# Altium footprint library LibTim_Connectors.PcbLib: 15 footprints
Each footprint in its own frame and in the unit in brackets; x right, y up, seen from the top. Pads: shape width x height; smd on the part's side, far side on the other; paste and mask are expansions set on the pad; w line width, h text height; cw(c..) or ccw(c..) is an arc to the next point about the centre after c.
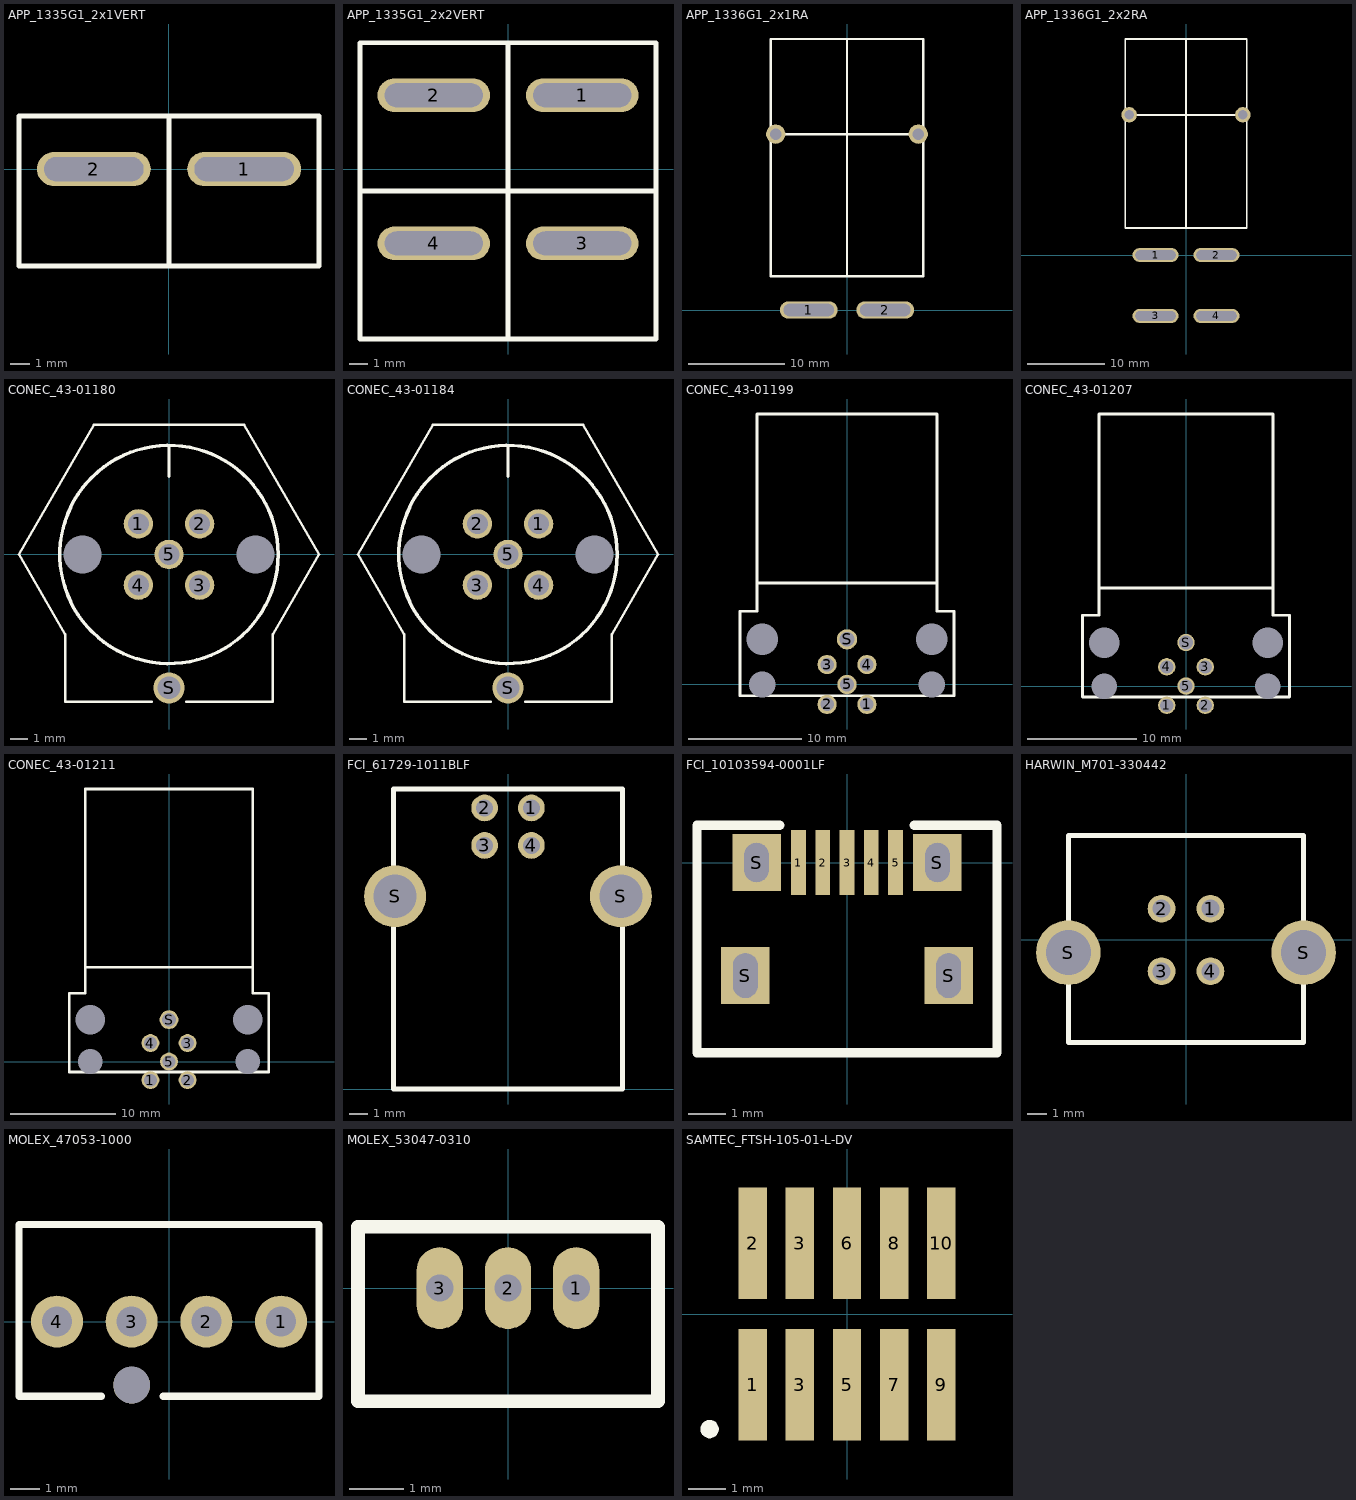
[diagram p0: the footprints below, top view; thin cyan lines are the x and y axes]

## APP_1335G1_2x1VERT [mm]
pads (2):
  oval 6x1.8 hole 1.27 slot 5.23 at 0 deg: 1(3.96,0) 2(-3.96,0)
Top Overlay:
  lines w0.254: 0,-5.1 0,2.8 ; -7.9,-5.1 7.9,-5.1 7.9,2.8 -7.9,2.8 -7.9,-5.1
3D body "PP 15-45 (Std)-02-08-STEP.stp": height 24.6, standoff -0.11, extent -8.204,-5.4 0.204,3.007
3D body "PP 15-45 (Std)-02-08-STEP.stp": height 24.6, standoff -0.11, extent -0.104,-5.4 8.304,3.007

## APP_1335G1_2x2VERT [mm]
pads (4):
  oval 6x1.8 hole 1.27 slot 5.23 at 0 deg: 1(3.96,3.95) 2(-3.96,3.95) 3(3.96,-3.95) 4(-3.96,-3.95)
Top Overlay:
  lines w0.254: 0,-9.05 0,-1.15 0,6.75 ; -7.9,-1.15 7.9,-1.15 ; -7.9,-1.15 -7.9,-9.05 7.9,-9.05 7.9,-1.15 ; -7.9,-1.15 -7.9,6.75 7.9,6.75 7.9,-1.15 ; -7.9,-1.15 7.9,-1.15
3D body "PP 15-45 (Std)-02-08-STEP.stp": height 24.6, standoff -0.11, extent -8.204,-9.35 0.204,-0.943
3D body "PP 15-45 (Std)-02-08-STEP.stp": height 24.6, standoff -0.11, extent -0.104,-9.35 8.304,-0.943
3D body "PP 15-45 (Std)-02-08-STEP.stp": height 24.6, standoff -0.11, extent -0.104,-1.45 8.304,6.957
3D body "PP 15-45 (Std)-02-08-STEP.stp": height 24.6, standoff -0.11, extent -8.204,-1.45 0.204,6.957

## APP_1336G1_2x1RA [mm]
pads (4):
  oval 6x1.8 hole 1.27 slot 5.23 at 0 deg: 1(-3.96,0) 2(3.96,0)
  round 2 hole 1.2: ""(-7.39,18.24) ""(7.39,18.24)
Top Overlay:
  lines w0.254: -7.9,18.24 7.9,18.24 ; 0,3.5 0,28.1 ; -7.9,3.5 -7.9,28.1 7.9,28.1 7.9,3.5 -7.9,3.5
3D body "1336G1 IN HSG.STEP": height 8.42, standoff -5.65, extent 0.1,-0.476 8.507,28.276
3D body "1336G1 IN HSG.STEP": height 8.42, standoff -5.65, extent -7.9,-0.476 0.507,28.276

## APP_1336G1_2x2RA [mm]
pads (6):
  oval 6x1.8 hole 1.27 slot 5.23 at 0 deg: 1(-3.96,0) 2(3.96,0) 3(-3.96,-7.92) 4(3.96,-7.92)
  round 2 hole 1.2: ""(-7.39,18.24) ""(7.39,18.24)
Top Overlay:
  lines w0.254: -7.9,18.24 7.9,18.24 ; 0,3.5 0,28.1 ; -7.9,3.5 7.9,3.5 7.9,28.1 -7.9,28.1 -7.9,3.5
3D body "1336G1 IN HSG.STEP": height 8.42, standoff -5.65, extent -7.9,-0.476 0.507,28.276
3D body "1336G1 IN HSG.STEP": height 8.42, standoff -5.65, extent 0.1,-0.476 8.507,28.276
3D body "1337G1 IN HSG.STEP": height 16.3, standoff -5.62, extent -7.9,-8.427 0.507,28.276
3D body "1337G1 IN HSG.STEP": height 16.3, standoff -5.62, extent 0.1,-8.427 8.507,28.276

## CONEC_43-01180 [mm]
pads (8):
  round 1.7 hole 1.2 paste+1: 1(-1.768,1.768)
  round 1.7 hole 1.2: 2(1.768,1.768) 3(1.768,-1.768) 4(-1.768,-1.768) 5(0,0)
  round 1.8 hole 1.3: S(0,-7.7)
  round 0 hole 2.2 unplated: ""(-5,0) ""(5,0)
Top Overlay:
  circle w0.2: c0,0 r6.3
  lines w0.15: -1,-8.5 -6,-8.5 -6,-4.6 -8.66,0 -4.33,7.5 4.33,7.5 8.66,0 6,-4.6 6,-8.5 1,-8.5 ; 0,4.5 0,6.3
3D body "43-01180.stp": height 19.81, standoff -2.89, extent -12.958,-14.207 12.958,11.709

## CONEC_43-01184 [mm]
pads (8):
  round 1.7 hole 1.2: 1(1.768,1.768) 3(-1.768,-1.768) 4(1.768,-1.768) 5(0,0)
  round 1.7 hole 1.2 paste+1: 2(-1.768,1.768)
  round 1.8 hole 1.3: S(0,-7.7)
  round 0 hole 2.2 unplated: ""(-5,0) ""(5,0)
Top Overlay:
  circle w0.2: c0,0 r6.3
  lines w0.15: -1,-8.5 -6,-8.5 -6,-4.6 -8.66,0 -4.33,7.5 4.33,7.5 8.66,0 6,-4.6 6,-8.5 1,-8.5 ; 0,4.5 0,6.3
3D body "43-01184.stp": height 22.5, standoff -2.4, extent -12.937,-14.179 12.979,11.737

## CONEC_43-01199 [mm]
pads (10):
  round 1.7 hole 1.2: 1(1.768,-1.768) 2(-1.768,-1.768) 4(1.768,1.768) 5(0,0)
  round 1.7 hole 1.2 paste+1: 3(-1.768,1.768)
  round 1.8 hole 1.3: S(0,4)
  round 0 hole 2.35 unplated: ""(-7.5,0) ""(7.5,0)
  round 0 hole 2.8 unplated: ""(-7.5,4) ""(7.5,4)
Top Overlay:
  lines w0.254: 9.4,-1 -9.5,-1 -9.5,6.5 -8,6.5 -8,9 ; 9.5,-1 9.5,6.5 8,6.5 8,9 ; -8,9 -8,24 8,24 8,9 ; -8,9 8,9
3D body "43-01199.stp": height 21.35, standoff -11.61, extent -16.481,-2.2 16.481,23.759

## CONEC_43-01207 [mm]
pads (10):
  round 1.6 hole 1.2: 1(-1.768,-1.768) 2(1.768,-1.768) 3(1.768,1.768) 5(0,0)
  round 1.6 hole 1.2 paste+1: 4(-1.768,1.768)
  round 1.6 hole 1.3: S(0,4)
  round 0 hole 2.35 unplated: ""(-7.5,0) ""(7.5,0)
  round 0 hole 2.8 unplated: ""(-7.5,4) ""(7.5,4)
Top Overlay:
  lines w0.254: 9.4,-1 -9.5,-1 -9.5,6.5 -8,6.5 -8,9 ; 9.5,-1 9.5,6.5 8,6.5 8,9 ; -8,9 8,9 ; -8,9 -8,25 8,25 8,9
3D body "43-01207.stp": height 21.35, standoff -11.61, extent -16.481,-2.1 16.481,24.859

## CONEC_43-01211 [mm]
pads (10):
  round 1.7 hole 1.2: 1(-1.768,-1.768) 2(1.768,-1.768) 3(1.768,1.768) 5(0,0)
  round 1.7 hole 1.2 paste+1: 4(-1.768,1.768)
  round 1.8 hole 1.3: S(0,4)
  round 0 hole 2.35 unplated: ""(-7.5,0) ""(7.5,0)
  round 0 hole 2.8 unplated: ""(-7.5,4) ""(7.5,4)
Top Overlay:
  lines w0.254: 9.4,-1 -9.5,-1 -9.5,6.5 -8,6.5 -8,9 ; 9.5,-1 9.5,6.5 8,6.5 8,9 ; -8,9 -8,26 8,26 8,9 ; -8,9 8,9
3D body "43-01211.stp": height 21.35, standoff -11.61, extent -16.482,-2.1 16.481,25.559

## FCI_61729-1011BLF [mm]
height 11
pads (6):
  round 1.42 hole 0.92: 1(1.25,14.99) 2(-1.25,14.99) 3(-1.25,12.99) 4(1.25,12.99)
  round 3.3 hole 2.3: S(-6.02,10.28) S(6.02,10.28)
Top Overlay:
  lines w0.254: -6.1,0 -6.1,16 6.1,16 6.1,0 -6.1,0
3D body "i61729-xxxxx_cust.stp": height 11, standoff -2.8, extent -6.46,0.15 6.66,16.09

## FCI_10103594-0001LF [mm]
pads (9):
  rect 0.4x1.75 smd: 1(-1.3,0) 2(-0.65,0) 3(0,0) 4(0.65,0) 5(1.3,0)
  rect 1.3x1.524 hole 0.66 slot 1.2 at 90 deg: S(-2.725,-3.03) S(2.725,-3.03)
  rect 1.3x1.524 hole 0.66 slot 1.05 at 90 deg: S(-2.425,0) S(2.425,0)
Top Overlay:
  lines w0.254: -1.8,1 -4.02,1 -4.02,-5.1 4.02,-5.1 4.02,1 1.8,1
3D body "10103594.stp": height 2.9, standoff -0.7, extent -4.02,-5.849 4.02,0.184

## HARWIN_M701-330442 [mm]
pads (6):
  round 1.42 hole 0.92: 1(1.25,1.6) 2(-1.25,1.6) 3(-1.25,-1.6) 4(1.25,-1.6)
  round 3.3 hole 2.3: S(-6.02,-0.65) S(6.02,-0.65)
Top Overlay:
  lines w0.254: -6.02,-5.25 -6.02,5.35 6.02,5.35 6.02,-5.25 -6.02,-5.25
3D body "m701-330442_asm.stp": height 16.25, standoff -5.35, extent -7.328,-5.7 7.328,5

## MOLEX_47053-1000 [mm] "KK® 254 Vertical Header, with Friction Lock, 4 Circuits, PC Tail Length: 3.50mm"
pads (5):
  round 1.77 hole 1.02: 1(3.81,0) 2(1.27,0) 3(-1.27,0) 4(-3.81,0)
  round 1.25 hole 1.25: ""(-1.27,-2.16)
Top Overlay:
  lines w0.254: -2.3,-2.54 -5.1,-2.54 -5.1,3.3 5.1,3.3 5.1,-2.54 -0.2,-2.54
3D body "470531000.stp": height 10, standoff -3.5, extent -5.1,-2.5 5.1,3.34

## MOLEX_53047-0310 [mm]
pads (3):
  oval 0.85x1.5 hole 0.5: 1(1.25,0) 2(0,0) 3(-1.25,0)
Top Overlay:
  lines w0.254: -2.75,-2.075 2.75,-2.075 2.75,1.125 -2.75,1.125 -2.75,-2.075
3D body "530470310.stp": height 4.28, standoff -2.22, extent -2.75,-2 2.75,1.2

## SAMTEC_FTSH-105-01-L-DV [mm]
pads (11):
  rect 0.76x3 smd: 1(-2.54,-1.905) 2(-2.54,1.905) 3(-1.27,-1.905) 3(-1.27,1.905) 5(0,-1.905) 6(0,1.905) 7(1.27,-1.905) 8(1.27,1.905) 9(2.54,-1.905) 10(2.54,1.905)
  round 0.5 on Top Overlay: ""(-3.7,-3.1)
3D body "FTSH-105-01-L-DV.stp": height 5.96, standoff -0.01, extent -3.175,-2.956 3.175,2.886